# Altium footprint library 2020-01-26_02-44-42.PcbLib: 3 footprints
Each footprint in its own frame and in the unit in brackets; x right, y up, seen from the top. Pads: shape width x height; smd on the part's side, far side on the other; paste and mask are expansions set on the pad; w line width, h text height; cw(c..) or ccw(c..) is an arc to the next point about the centre after c.
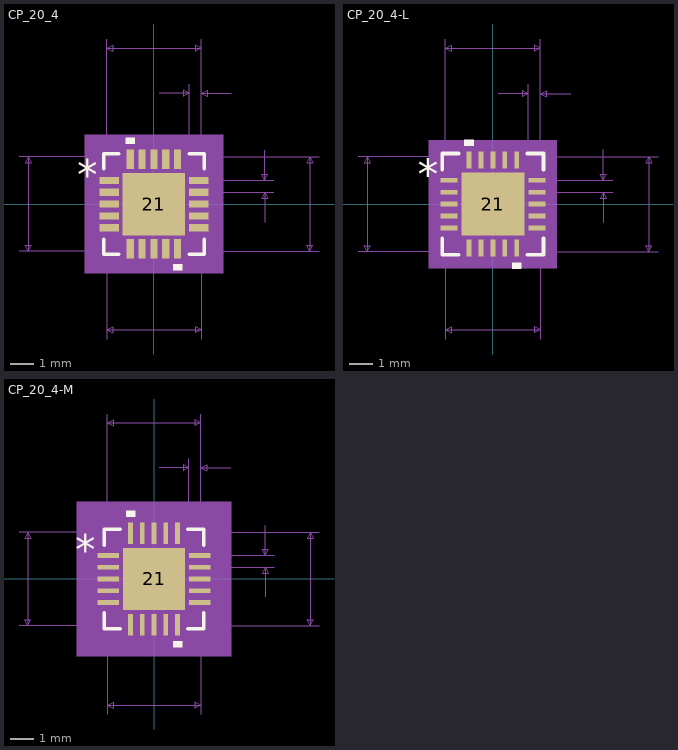
[diagram p0: the footprints below, top view; thin cyan lines are the x and y axes]

## CP_20_4 [mil]
pads (21):
  rect 32x12 smd: 1(-74.5,39.37) 2(-74.5,19.68) 3(-74.5,0) 4(-74.5,-19.68) 5(-74.5,-39.37) 11(74.5,-39.37) 12(74.5,-19.68) 13(74.5,0) 14(74.5,19.68) 15(74.5,39.37)
  rect 12x32 smd: 6(-39.37,-74.5) 7(-19.68,-74.5) 8(0,-74.5) 9(19.68,-74.5) 10(39.37,-74.5) 16(39.37,74.5) 17(19.68,74.5) 18(0,74.5) 19(-19.68,74.5) 20(-39.37,74.5)
  rect 104x104 smd paste-51.5 mask+0: 21(0,0)
Top Overlay:
  region: 46.87,-100.5 31.87,-100.5 31.87,-110.5 46.87,-110.5
  region: -31.87,100.5 -46.87,100.5 -46.87,110.5 -31.87,110.5
  lines w6: -83.5,-58.47 -83.5,-83.5 -58.47,-83.5 ; -83.5,58.47 -83.5,83.5 -58.47,83.5 ; 58.47,-83.5 83.5,-83.5 83.5,-58.47 ; 58.47,83.5 83.5,83.5 83.5,58.47
  text "*" at -128,24.21 h50
Top Paste:
  region: -3.94,48.06 -48.06,48.06 -48.06,3.94 -3.94,3.94
  region: -3.94,-3.94 -48.06,-3.94 -48.06,-48.06 -3.94,-48.06
  region: 48.06,48.06 3.94,48.06 3.94,3.94 48.06,3.94
  region: 48.06,-3.94 3.94,-3.94 3.94,-48.06 48.06,-48.06
Mechanical 5:
  region: 115.5,-115.5 -115.5,-115.5 -115.5,115.5 115.5,115.5
Mechanical 7:
  lines w1: -224.5,-78.5 78.5,-78.5 ; -224.5,78.5 78.5,78.5 78.5,-224.5 ; -78.5,-224.5 -78.5,78.5 ; -78.5,39.37 -78.5,274.5 ; 8.5,184.5 58.5,184.5 ; 39.37,-78.5 274.5,-78.5 ; 39.37,78.5 274.5,78.5 ; 58.5,39.37 58.5,199.5 ; 74.5,19.68 199.5,19.68 ; 74.5,39.37 199.5,39.37 ; 78.5,199.5 78.5,39.37 78.5,274.5 ; 128.5,184.5 78.5,184.5 ; 184.5,-30.32 184.5,19.68 ; 184.5,89.37 184.5,39.37 ; -209.5,-78.5 -209.5,78.5 ; -209.5,-78.5 -214.5,-68.5 -204.5,-68.5 -209.5,-78.5 ; -209.5,78.5 -214.5,68.5 -204.5,68.5 -209.5,78.5 ; -78.5,-209.5 78.5,-209.5 ; -78.5,-209.5 -68.5,-204.5 -68.5,-214.5 -78.5,-209.5 ; -78.5,259.5 78.5,259.5 ; -78.5,259.5 -68.5,264.5 -68.5,254.5 -78.5,259.5 ; 58.5,184.5 48.5,189.5 48.5,179.5 58.5,184.5 ; 78.5,-209.5 68.5,-204.5 68.5,-214.5 78.5,-209.5 ; 78.5,184.5 88.5,189.5 88.5,179.5 78.5,184.5 ; 78.5,259.5 68.5,264.5 68.5,254.5 78.5,259.5 ; 184.5,19.68 179.5,9.69 189.5,9.69 184.5,19.68 ; 184.5,39.37 179.5,49.37 189.5,49.37 184.5,39.37 ; 259.5,-78.5 259.5,78.5 ; 259.5,-78.5 254.5,-68.5 264.5,-68.5 259.5,-78.5 ; 259.5,78.5 254.5,68.5 264.5,68.5 259.5,78.5
  text "Default Padstyle: RX12Y32D0T" at -350,-400.5 h50
  text "Heat Tab Padstyle: RX104Y104D0T" at -387.5,-460.5 h50
  text "Alt 1 Padstyle: OX60Y90D30P" at -337.5,-580.5 h50
  text "Alt 2 Padstyle: OX90Y60D30P" at -337.5,-640.5 h50
  text "0.02in/0.5mm" at 204.5,17.03 h25
  text "0.02in/0.508mm" at -19,204.5 h25
  text "0.157in/3.988mm" at -93.75,279.5 h25
  text "0.157in/3.988mm" at 279.5,-12.5 h25
  text "0.157in/3.988mm" at -417,-12.5 h25
  text "0.157in/3.988mm" at -93.75,-254.5 h25
Mechanical 13:
  lines w1: -78.5,28.5 -28.5,78.5 ; -78.5,-78.5 78.5,-78.5 ; -78.5,-78.5 -78.5,78.5 ; -78.5,-78.5 -78.5,-78.5 ; -78.5,-45.37 -78.5,-33.37 ; -78.5,-45.37 -78.5,-33.37 ; -78.5,-45.37 -78.5,-45.37 ; -78.5,-33.37 -78.5,-33.37 ; -78.5,-25.68 -78.5,-13.69 ; -78.5,-25.68 -78.5,-13.69 ; -78.5,-25.68 -78.5,-25.68 ; -78.5,-13.69 -78.5,-13.69 ; -78.5,-6 -78.5,6 ; -78.5,-6 -78.5,6 ; -78.5,-6 -78.5,-6 ; -78.5,6 -78.5,6 ; -78.5,13.69 -78.5,25.68 ; -78.5,13.69 -78.5,25.68 ; -78.5,13.69 -78.5,13.69 ; -78.5,25.68 -78.5,25.68 ; -78.5,33.37 -78.5,45.37 ; -78.5,33.37 -78.5,45.37 ; -78.5,33.37 -78.5,33.37 ; -78.5,45.37 -78.5,45.37 ; -78.5,78.5 78.5,78.5 ; -78.5,78.5 -78.5,78.5 ; -45.37,-78.5 -33.37,-78.5 ; -45.37,-78.5 -45.37,-78.5 ; -45.37,-78.5 -33.37,-78.5 ; -45.37,78.5 -33.37,78.5 ; -45.37,78.5 -33.37,78.5 ; -45.37,78.5 -45.37,78.5 ; -33.37,-78.5 -33.37,-78.5 ; -33.37,78.5 -33.37,78.5 ; -25.68,-78.5 -13.69,-78.5 ; -25.68,-78.5 -25.68,-78.5 ; -25.68,-78.5 -13.69,-78.5 ; -25.68,78.5 -13.69,78.5 ; -25.68,78.5 -13.69,78.5 ; -25.68,78.5 -25.68,78.5 ; -13.69,-78.5 -13.69,-78.5 ; -13.69,78.5 -13.69,78.5 ; -6,-78.5 6,-78.5 ; -6,-78.5 -6,-78.5 ; -6,-78.5 6,-78.5 ; -6,78.5 6,78.5 ; -6,78.5 6,78.5 ; -6,78.5 -6,78.5 ; 6,-78.5 6,-78.5 ; 6,78.5 6,78.5 ; 13.69,-78.5 25.68,-78.5 ; 13.69,-78.5 13.69,-78.5 ; 13.69,-78.5 25.68,-78.5 ; 13.69,78.5 25.68,78.5 ; 13.69,78.5 25.68,78.5 ; 13.69,78.5 13.69,78.5 ; 25.68,-78.5 25.68,-78.5 ; 25.68,78.5 25.68,78.5 ; 33.37,-78.5 45.37,-78.5 ; 33.37,-78.5 33.37,-78.5 ; 33.37,-78.5 45.37,-78.5 ; 33.37,78.5 45.37,78.5 ; 33.37,78.5 45.37,78.5 ; 33.37,78.5 33.37,78.5 ; 45.37,-78.5 45.37,-78.5 ; 45.37,78.5 45.37,78.5 ; 78.5,-78.5 78.5,-78.5 ; 78.5,-78.5 78.5,78.5 ; 78.5,-45.37 78.5,-33.37 ; 78.5,-45.37 78.5,-45.37 ; 78.5,-45.37 78.5,-33.37 ; 78.5,-33.37 78.5,-33.37 ; 78.5,-25.68 78.5,-13.69 ; 78.5,-25.68 78.5,-25.68 ; 78.5,-25.68 78.5,-13.69 ; 78.5,-13.69 78.5,-13.69 ; 78.5,-6 78.5,6 ; 78.5,-6 78.5,-6 ; 78.5,-6 78.5,6 ; 78.5,6 78.5,6 ; 78.5,13.69 78.5,25.68 ; 78.5,13.69 78.5,13.69 ; 78.5,13.69 78.5,25.68 ; 78.5,25.68 78.5,25.68 ; 78.5,33.37 78.5,45.37 ; 78.5,33.37 78.5,33.37 ; 78.5,33.37 78.5,45.37 ; 78.5,45.37 78.5,45.37 ; 78.5,78.5 78.5,78.5
  text "*" at -71,24.21 h50
Mechanical 15:
  region: -49.21,-88.5 -88.5,-88.5 -88.5,-49.21 -98.5,-49.21 -98.5,49.21 -88.5,49.21 -88.5,88.5 -49.21,88.5 -49.21,98.5 49.21,98.5 49.21,88.5 88.5,88.5 88.5,49.21 98.5,49.21 98.5,-49.21 88.5,-49.21 88.5,-88.5 49.21,-88.5 49.21,-98.5 -49.21,-98.5
  lines w6: -98.5,-49.21 -88.5,-49.21 -88.5,-88.5 -49.21,-88.5 -49.21,-98.5 49.21,-98.5 49.21,-88.5 88.5,-88.5 88.5,-49.21 98.5,-49.21 98.5,49.21 88.5,49.21 88.5,88.5 49.21,88.5 49.21,98.5 -49.21,98.5 -49.21,88.5 -88.5,88.5 -88.5,49.21 -98.5,49.21 -98.5,-49.21
3D body: height 10, standoff 0, extent 0,0 10,10

## CP_20_4-L [mil]
pads (21):
  rect 28x8 smd paste+0 mask+0: 1(-72.5,39.37) 2(-72.5,19.68) 3(-72.5,0) 4(-72.5,-19.68) 5(-72.5,-39.37) 11(72.5,-39.37) 12(72.5,-19.68) 13(72.5,0) 14(72.5,19.68) 15(72.5,39.37)
  rect 8x28 smd paste+0 mask+0: 6(-39.37,-72.5) 7(-19.68,-72.5) 8(0,-72.5) 9(19.68,-72.5) 10(39.37,-72.5) 16(39.37,72.5) 17(19.68,72.5) 18(0,72.5) 19(-19.68,72.5) 20(-39.37,72.5)
  rect 104x104 smd paste-51.5 mask+0: 21(0,0)
Top Overlay:
  region: 46.87,-96.5 31.87,-96.5 31.87,-106.5 46.87,-106.5
  region: -31.87,96.5 -46.87,96.5 -46.87,106.5 -31.87,106.5
  lines w6: -83.5,-56.47 -83.5,-83.5 -56.47,-83.5 ; -83.5,56.47 -83.5,83.5 -56.47,83.5 ; 56.47,-83.5 83.5,-83.5 83.5,-56.47 ; 56.47,83.5 83.5,83.5 83.5,56.47
  text "*" at -124,24.21 h50
Top Paste:
  region: -3.94,48.06 -48.06,48.06 -48.06,3.94 -3.94,3.94
  region: -3.94,-3.94 -48.06,-3.94 -48.06,-48.06 -3.94,-48.06
  region: 48.06,48.06 3.94,48.06 3.94,3.94 48.06,3.94
  region: 48.06,-3.94 3.94,-3.94 3.94,-48.06 48.06,-48.06
Mechanical 5:
  region: 105.5,-105.5 -105.5,-105.5 -105.5,105.5 105.5,105.5
Mechanical 7:
  lines w1: -222.5,-78.5 78.5,-78.5 ; -222.5,78.5 78.5,78.5 78.5,-222.5 ; -78.5,-222.5 -78.5,78.5 ; -78.5,39.37 -78.5,272.5 ; 8.5,182.5 58.5,182.5 ; 39.37,-78.5 272.5,-78.5 ; 39.37,78.5 272.5,78.5 ; 58.5,39.37 58.5,197.5 ; 72.5,19.68 197.5,19.68 ; 72.5,39.37 197.5,39.37 ; 78.5,197.5 78.5,39.37 78.5,272.5 ; 128.5,182.5 78.5,182.5 ; 182.5,-30.32 182.5,19.68 ; 182.5,89.37 182.5,39.37 ; -207.5,-78.5 -207.5,78.5 ; -207.5,-78.5 -212.5,-68.5 -202.5,-68.5 -207.5,-78.5 ; -207.5,78.5 -212.5,68.5 -202.5,68.5 -207.5,78.5 ; -78.5,-207.5 78.5,-207.5 ; -78.5,-207.5 -68.5,-202.5 -68.5,-212.5 -78.5,-207.5 ; -78.5,257.5 78.5,257.5 ; -78.5,257.5 -68.5,262.5 -68.5,252.5 -78.5,257.5 ; 58.5,182.5 48.5,187.5 48.5,177.5 58.5,182.5 ; 78.5,-207.5 68.5,-202.5 68.5,-212.5 78.5,-207.5 ; 78.5,182.5 88.5,187.5 88.5,177.5 78.5,182.5 ; 78.5,257.5 68.5,262.5 68.5,252.5 78.5,257.5 ; 182.5,19.68 177.5,9.69 187.5,9.69 182.5,19.68 ; 182.5,39.37 177.5,49.37 187.5,49.37 182.5,39.37 ; 257.5,-78.5 257.5,78.5 ; 257.5,-78.5 252.5,-68.5 262.5,-68.5 257.5,-78.5 ; 257.5,78.5 252.5,68.5 262.5,68.5 257.5,78.5
  text "Default Padstyle: RX8Y28D0T" at -337.5,-396.5 h50
  text "Heat Tab Padstyle: RX104Y104D0T" at -387.5,-456.5 h50
  text "Alt 1 Padstyle: OX60Y90D30P" at -337.5,-576.5 h50
  text "Alt 2 Padstyle: OX90Y60D30P" at -337.5,-636.5 h50
  text "0.02in/0.5mm" at 202.5,17.03 h25
  text "0.02in/0.508mm" at -19,202.5 h25
  text "0.157in/3.988mm" at -93.75,277.5 h25
  text "0.157in/3.988mm" at 277.5,-12.5 h25
  text "0.157in/3.988mm" at -415,-12.5 h25
  text "0.157in/3.988mm" at -93.75,-252.5 h25
Mechanical 13:
  lines w1: -78.5,28.5 -28.5,78.5 ; -78.5,-78.5 78.5,-78.5 ; -78.5,-78.5 -78.5,78.5 ; -78.5,-78.5 -78.5,-78.5 ; -78.5,-45.37 -78.5,-33.37 ; -78.5,-45.37 -78.5,-33.37 ; -78.5,-45.37 -78.5,-45.37 ; -78.5,-33.37 -78.5,-33.37 ; -78.5,-25.68 -78.5,-13.69 ; -78.5,-25.68 -78.5,-13.69 ; -78.5,-25.68 -78.5,-25.68 ; -78.5,-13.69 -78.5,-13.69 ; -78.5,-6 -78.5,6 ; -78.5,-6 -78.5,6 ; -78.5,-6 -78.5,-6 ; -78.5,6 -78.5,6 ; -78.5,13.69 -78.5,25.68 ; -78.5,13.69 -78.5,25.68 ; -78.5,13.69 -78.5,13.69 ; -78.5,25.68 -78.5,25.68 ; -78.5,33.37 -78.5,45.37 ; -78.5,33.37 -78.5,45.37 ; -78.5,33.37 -78.5,33.37 ; -78.5,45.37 -78.5,45.37 ; -78.5,78.5 78.5,78.5 ; -78.5,78.5 -78.5,78.5 ; -45.37,-78.5 -33.37,-78.5 ; -45.37,-78.5 -45.37,-78.5 ; -45.37,-78.5 -33.37,-78.5 ; -45.37,78.5 -33.37,78.5 ; -45.37,78.5 -33.37,78.5 ; -45.37,78.5 -45.37,78.5 ; -33.37,-78.5 -33.37,-78.5 ; -33.37,78.5 -33.37,78.5 ; -25.68,-78.5 -13.69,-78.5 ; -25.68,-78.5 -25.68,-78.5 ; -25.68,-78.5 -13.69,-78.5 ; -25.68,78.5 -13.69,78.5 ; -25.68,78.5 -13.69,78.5 ; -25.68,78.5 -25.68,78.5 ; -13.69,-78.5 -13.69,-78.5 ; -13.69,78.5 -13.69,78.5 ; -6,-78.5 6,-78.5 ; -6,-78.5 -6,-78.5 ; -6,-78.5 6,-78.5 ; -6,78.5 6,78.5 ; -6,78.5 6,78.5 ; -6,78.5 -6,78.5 ; 6,-78.5 6,-78.5 ; 6,78.5 6,78.5 ; 13.69,-78.5 25.68,-78.5 ; 13.69,-78.5 13.69,-78.5 ; 13.69,-78.5 25.68,-78.5 ; 13.69,78.5 25.68,78.5 ; 13.69,78.5 25.68,78.5 ; 13.69,78.5 13.69,78.5 ; 25.68,-78.5 25.68,-78.5 ; 25.68,78.5 25.68,78.5 ; 33.37,-78.5 45.37,-78.5 ; 33.37,-78.5 33.37,-78.5 ; 33.37,-78.5 45.37,-78.5 ; 33.37,78.5 45.37,78.5 ; 33.37,78.5 45.37,78.5 ; 33.37,78.5 33.37,78.5 ; 45.37,-78.5 45.37,-78.5 ; 45.37,78.5 45.37,78.5 ; 78.5,-78.5 78.5,-78.5 ; 78.5,-78.5 78.5,78.5 ; 78.5,-45.37 78.5,-33.37 ; 78.5,-45.37 78.5,-45.37 ; 78.5,-45.37 78.5,-33.37 ; 78.5,-33.37 78.5,-33.37 ; 78.5,-25.68 78.5,-13.69 ; 78.5,-25.68 78.5,-25.68 ; 78.5,-25.68 78.5,-13.69 ; 78.5,-13.69 78.5,-13.69 ; 78.5,-6 78.5,6 ; 78.5,-6 78.5,-6 ; 78.5,-6 78.5,6 ; 78.5,6 78.5,6 ; 78.5,13.69 78.5,25.68 ; 78.5,13.69 78.5,13.69 ; 78.5,13.69 78.5,25.68 ; 78.5,25.68 78.5,25.68 ; 78.5,33.37 78.5,45.37 ; 78.5,33.37 78.5,33.37 ; 78.5,33.37 78.5,45.37 ; 78.5,45.37 78.5,45.37 ; 78.5,78.5 78.5,78.5
  text "*" at -71,24.21 h50
Mechanical 15:
  region: -47.37,-82.5 -82.5,-82.5 -82.5,-47.37 -90.5,-47.37 -90.5,47.37 -82.5,47.37 -82.5,82.5 -47.37,82.5 -47.37,90.5 47.37,90.5 47.37,82.5 82.5,82.5 82.5,47.37 90.5,47.37 90.5,-47.37 82.5,-47.37 82.5,-82.5 47.37,-82.5 47.37,-90.5 -47.37,-90.5
  lines w6: -90.5,-47.37 -82.5,-47.37 -82.5,-82.5 -47.37,-82.5 -47.37,-90.5 47.37,-90.5 47.37,-82.5 82.5,-82.5 82.5,-47.37 90.5,-47.37 90.5,47.37 82.5,47.37 82.5,82.5 47.37,82.5 47.37,90.5 -47.37,90.5 -47.37,82.5 -82.5,82.5 -82.5,47.37 -90.5,47.37 -90.5,-47.37
3D body: height 10, standoff 0, extent 0,0 10,10

## CP_20_4-M [mil]
pads (21):
  rect 36x8 smd paste+0 mask+0: 1(-76.5,39.37) 2(-76.5,19.68) 3(-76.5,0) 4(-76.5,-19.68) 5(-76.5,-39.37) 11(76.5,-39.37) 12(76.5,-19.68) 13(76.5,0) 14(76.5,19.68) 15(76.5,39.37)
  rect 8x36 smd paste+0 mask+0: 6(-39.37,-76.5) 7(-19.68,-76.5) 8(0,-76.5) 9(19.68,-76.5) 10(39.37,-76.5) 16(39.37,76.5) 17(19.68,76.5) 18(0,76.5) 19(-19.68,76.5) 20(-39.37,76.5)
  rect 104x104 smd paste-51.5 mask+0: 21(0,0)
Top Overlay:
  region: 46.87,-104.5 31.87,-104.5 31.87,-114.5 46.87,-114.5
  region: -31.87,104.5 -46.87,104.5 -46.87,114.5 -31.87,114.5
  lines w6: -83.5,-56.47 -83.5,-83.5 -56.47,-83.5 ; -83.5,56.47 -83.5,83.5 -56.47,83.5 ; 56.47,-83.5 83.5,-83.5 83.5,-56.47 ; 56.47,83.5 83.5,83.5 83.5,56.47
  text "*" at -132,24.21 h50
Top Paste:
  region: -3.94,48.06 -48.06,48.06 -48.06,3.94 -3.94,3.94
  region: -3.94,-3.94 -48.06,-3.94 -48.06,-48.06 -3.94,-48.06
  region: 48.06,48.06 3.94,48.06 3.94,3.94 48.06,3.94
  region: 48.06,-3.94 3.94,-3.94 3.94,-48.06 48.06,-48.06
Mechanical 5:
  region: 129.5,-129.5 -129.5,-129.5 -129.5,129.5 129.5,129.5
Mechanical 7:
  lines w1: -226.5,-78.5 78.5,-78.5 ; -226.5,78.5 78.5,78.5 78.5,-226.5 ; -78.5,-226.5 -78.5,78.5 ; -78.5,39.37 -78.5,276.5 ; 8.5,186.5 58.5,186.5 ; 39.37,-78.5 276.5,-78.5 ; 39.37,78.5 276.5,78.5 ; 58.5,39.37 58.5,201.5 ; 76.5,19.68 201.5,19.68 ; 76.5,39.37 201.5,39.37 ; 78.5,201.5 78.5,39.37 78.5,276.5 ; 128.5,186.5 78.5,186.5 ; 186.5,-30.32 186.5,19.68 ; 186.5,89.37 186.5,39.37 ; -211.5,-78.5 -211.5,78.5 ; -211.5,-78.5 -216.5,-68.5 -206.5,-68.5 -211.5,-78.5 ; -211.5,78.5 -216.5,68.5 -206.5,68.5 -211.5,78.5 ; -78.5,-211.5 78.5,-211.5 ; -78.5,-211.5 -68.5,-206.5 -68.5,-216.5 -78.5,-211.5 ; -78.5,261.5 78.5,261.5 ; -78.5,261.5 -68.5,266.5 -68.5,256.5 -78.5,261.5 ; 58.5,186.5 48.5,191.5 48.5,181.5 58.5,186.5 ; 78.5,-211.5 68.5,-206.5 68.5,-216.5 78.5,-211.5 ; 78.5,186.5 88.5,191.5 88.5,181.5 78.5,186.5 ; 78.5,261.5 68.5,266.5 68.5,256.5 78.5,261.5 ; 186.5,19.68 181.5,9.69 191.5,9.69 186.5,19.68 ; 186.5,39.37 181.5,49.37 191.5,49.37 186.5,39.37 ; 261.5,-78.5 261.5,78.5 ; 261.5,-78.5 256.5,-68.5 266.5,-68.5 261.5,-78.5 ; 261.5,78.5 256.5,68.5 266.5,68.5 261.5,78.5
  text "Default Padstyle: RX8Y36D0T" at -337.5,-404.5 h50
  text "Heat Tab Padstyle: RX104Y104D0T" at -387.5,-464.5 h50
  text "Alt 1 Padstyle: OX60Y90D30P" at -337.5,-584.5 h50
  text "Alt 2 Padstyle: OX90Y60D30P" at -337.5,-644.5 h50
  text "0.02in/0.5mm" at 206.5,17.03 h25
  text "0.02in/0.508mm" at -19,206.5 h25
  text "0.157in/3.988mm" at -93.75,281.5 h25
  text "0.157in/3.988mm" at 281.5,-12.5 h25
  text "0.157in/3.988mm" at -419,-12.5 h25
  text "0.157in/3.988mm" at -93.75,-256.5 h25
Mechanical 13:
  lines w1: -78.5,28.5 -28.5,78.5 ; -78.5,-78.5 78.5,-78.5 ; -78.5,-78.5 -78.5,78.5 ; -78.5,-78.5 -78.5,-78.5 ; -78.5,-45.37 -78.5,-33.37 ; -78.5,-45.37 -78.5,-33.37 ; -78.5,-45.37 -78.5,-45.37 ; -78.5,-33.37 -78.5,-33.37 ; -78.5,-25.68 -78.5,-13.69 ; -78.5,-25.68 -78.5,-13.69 ; -78.5,-25.68 -78.5,-25.68 ; -78.5,-13.69 -78.5,-13.69 ; -78.5,-6 -78.5,6 ; -78.5,-6 -78.5,6 ; -78.5,-6 -78.5,-6 ; -78.5,6 -78.5,6 ; -78.5,13.69 -78.5,25.68 ; -78.5,13.69 -78.5,25.68 ; -78.5,13.69 -78.5,13.69 ; -78.5,25.68 -78.5,25.68 ; -78.5,33.37 -78.5,45.37 ; -78.5,33.37 -78.5,45.37 ; -78.5,33.37 -78.5,33.37 ; -78.5,45.37 -78.5,45.37 ; -78.5,78.5 78.5,78.5 ; -78.5,78.5 -78.5,78.5 ; -45.37,-78.5 -33.37,-78.5 ; -45.37,-78.5 -45.37,-78.5 ; -45.37,-78.5 -33.37,-78.5 ; -45.37,78.5 -33.37,78.5 ; -45.37,78.5 -33.37,78.5 ; -45.37,78.5 -45.37,78.5 ; -33.37,-78.5 -33.37,-78.5 ; -33.37,78.5 -33.37,78.5 ; -25.68,-78.5 -13.69,-78.5 ; -25.68,-78.5 -25.68,-78.5 ; -25.68,-78.5 -13.69,-78.5 ; -25.68,78.5 -13.69,78.5 ; -25.68,78.5 -13.69,78.5 ; -25.68,78.5 -25.68,78.5 ; -13.69,-78.5 -13.69,-78.5 ; -13.69,78.5 -13.69,78.5 ; -6,-78.5 6,-78.5 ; -6,-78.5 -6,-78.5 ; -6,-78.5 6,-78.5 ; -6,78.5 6,78.5 ; -6,78.5 6,78.5 ; -6,78.5 -6,78.5 ; 6,-78.5 6,-78.5 ; 6,78.5 6,78.5 ; 13.69,-78.5 25.68,-78.5 ; 13.69,-78.5 13.69,-78.5 ; 13.69,-78.5 25.68,-78.5 ; 13.69,78.5 25.68,78.5 ; 13.69,78.5 25.68,78.5 ; 13.69,78.5 13.69,78.5 ; 25.68,-78.5 25.68,-78.5 ; 25.68,78.5 25.68,78.5 ; 33.37,-78.5 45.37,-78.5 ; 33.37,-78.5 33.37,-78.5 ; 33.37,-78.5 45.37,-78.5 ; 33.37,78.5 45.37,78.5 ; 33.37,78.5 45.37,78.5 ; 33.37,78.5 33.37,78.5 ; 45.37,-78.5 45.37,-78.5 ; 45.37,78.5 45.37,78.5 ; 78.5,-78.5 78.5,-78.5 ; 78.5,-78.5 78.5,78.5 ; 78.5,-45.37 78.5,-33.37 ; 78.5,-45.37 78.5,-45.37 ; 78.5,-45.37 78.5,-33.37 ; 78.5,-33.37 78.5,-33.37 ; 78.5,-25.68 78.5,-13.69 ; 78.5,-25.68 78.5,-25.68 ; 78.5,-25.68 78.5,-13.69 ; 78.5,-13.69 78.5,-13.69 ; 78.5,-6 78.5,6 ; 78.5,-6 78.5,-6 ; 78.5,-6 78.5,6 ; 78.5,6 78.5,6 ; 78.5,13.69 78.5,25.68 ; 78.5,13.69 78.5,13.69 ; 78.5,13.69 78.5,25.68 ; 78.5,25.68 78.5,25.68 ; 78.5,33.37 78.5,45.37 ; 78.5,33.37 78.5,33.37 ; 78.5,33.37 78.5,45.37 ; 78.5,45.37 78.5,45.37 ; 78.5,78.5 78.5,78.5
  text "*" at -71,24.21 h50
Mechanical 15:
  region: -63.37,-98.5 -98.5,-98.5 -98.5,-63.37 -114.5,-63.37 -114.5,63.37 -98.5,63.37 -98.5,98.5 -63.37,98.5 -63.37,114.5 63.37,114.5 63.37,98.5 98.5,98.5 98.5,63.37 114.5,63.37 114.5,-63.37 98.5,-63.37 98.5,-98.5 63.37,-98.5 63.37,-114.5 -63.37,-114.5
  lines w6: -114.5,-63.37 -98.5,-63.37 -98.5,-98.5 -63.37,-98.5 -63.37,-114.5 63.37,-114.5 63.37,-98.5 98.5,-98.5 98.5,-63.37 114.5,-63.37 114.5,63.37 98.5,63.37 98.5,98.5 63.37,98.5 63.37,114.5 -63.37,114.5 -63.37,98.5 -98.5,98.5 -98.5,63.37 -114.5,63.37 -114.5,-63.37
3D body: height 10, standoff 0, extent 0,0 10,10